# Altium footprint library libNico.PcbLib: 28 footprints (part 2 of 2)
Each footprint in its own frame and in the unit in brackets; x right, y up, seen from the top. Pads: shape width x height; smd on the part's side, far side on the other; paste and mask are expansions set on the pad; w line width, h text height; cw(c..) or ccw(c..) is an arc to the next point about the centre after c.
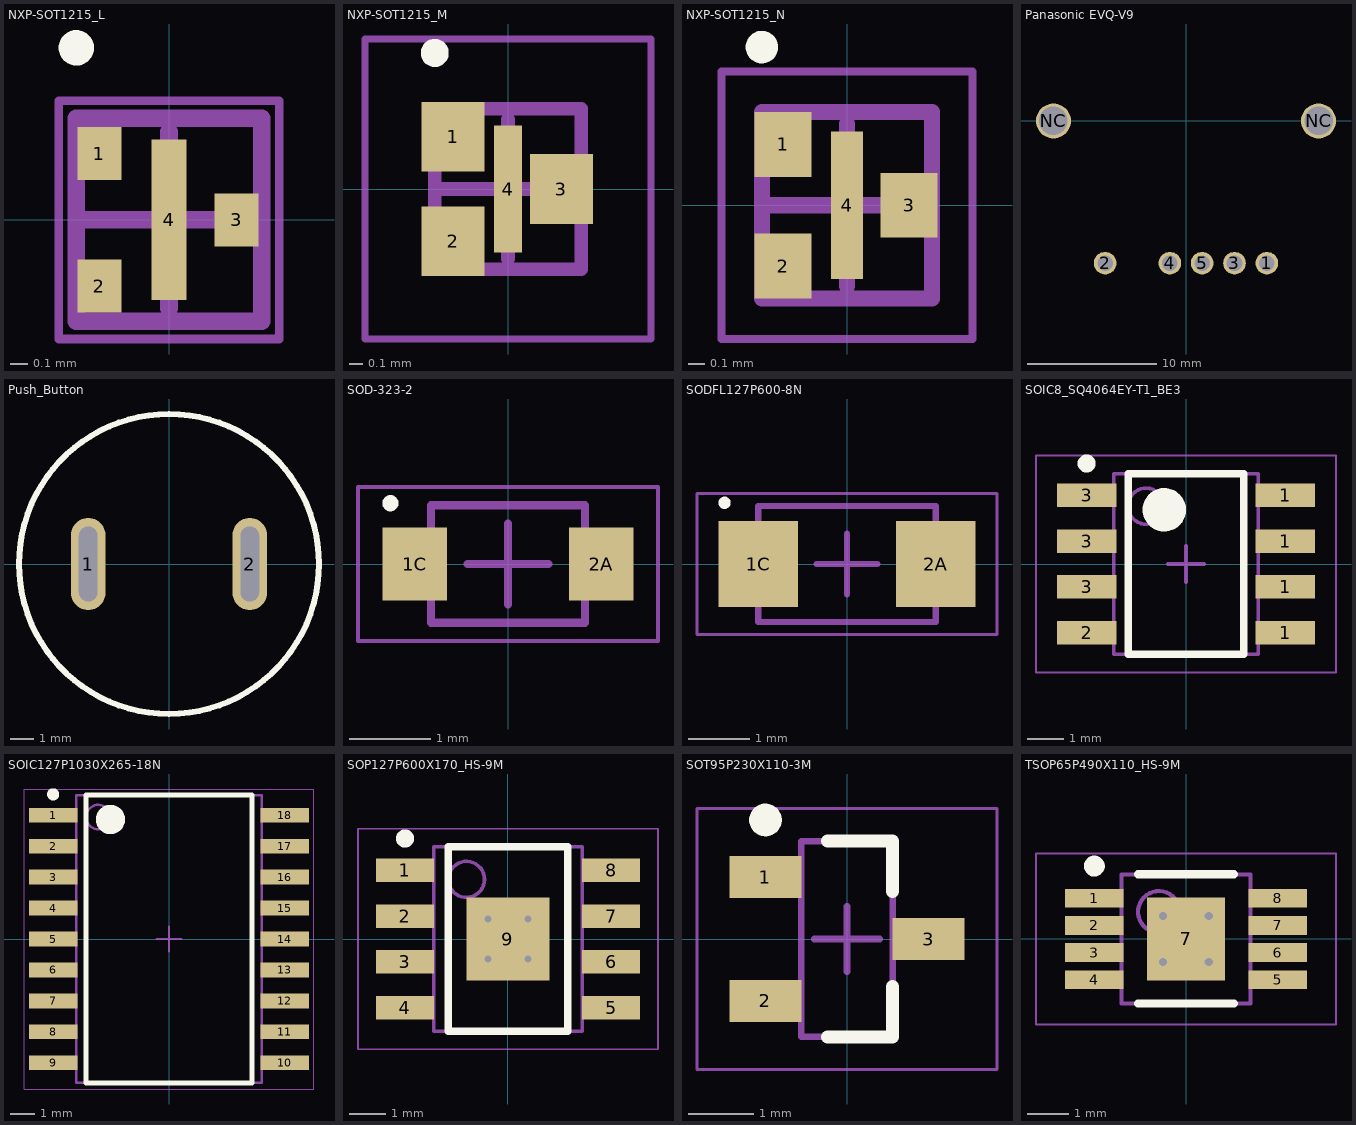
[diagram p1: the footprints below, top view; thin cyan lines are the x and y axes]

## NXP-SOT1215_L [mm] "SON, 3-Leads, Body 1.15x1.05mm, Pitch 0.75mm, Thermal Pad 0.91x0.2mm, IPC High Density"
height 0.4
pads (4):
  rect 0.25x0.3 smd: 1(-0.394,0.375) 2(-0.394,-0.375) 3(0.383,0)
  rect 0.2x0.91 smd: 4(0,0)
Top Overlay:
  circle w0.1: c-0.525,0.975 r0.05
Mechanical 13:
  lines w0.1: -0.525,-0.575 0.525,-0.575 0.525,0.575 -0.525,0.575 -0.525,-0.575
Mechanical 15:
  lines w0.05: -0.625,-0.675 0.625,-0.675 0.625,0.675 -0.625,0.675 -0.625,-0.675
  lines w0.1: -0.5,0 0.5,0 ; 0,-0.5 0,0.5
3D body: height 0.4, standoff 0.04, extent -0.525,-0.575 0.525,0.575

## NXP-SOT1215_M [mm] "SON, 3-Leads, Body 1.15x1.05mm, Pitch 0.75mm, Thermal Pad 0.91x0.2mm, IPC Low Density"
height 0.4
pads (4):
  rect 0.45x0.5 smd: 1(-0.394,0.375) 2(-0.394,-0.375) 3(0.383,0)
  rect 0.2x0.91 smd: 4(0,0)
Top Overlay:
  circle w0.1: c-0.525,0.975 r0.05
Mechanical 13:
  lines w0.1: -0.525,-0.575 0.525,-0.575 0.525,0.575 -0.525,0.575 -0.525,-0.575
Mechanical 15:
  lines w0.05: -1.025,-1.075 1.025,-1.075 1.025,1.075 -1.025,1.075 -1.025,-1.075
  lines w0.1: -0.5,0 0.5,0 ; 0,-0.5 0,0.5
3D body: height 0.4, standoff 0.04, extent -0.525,-0.575 0.525,0.575

## NXP-SOT1215_N [mm] "SON, 3-Leads, Body 1.15x1.05mm, Pitch 0.75mm, Thermal Pad 0.91x0.2mm, IPC Medium Density"
height 0.4
pads (4):
  rect 0.35x0.4 smd: 1(-0.394,0.375) 2(-0.394,-0.375) 3(0.383,0)
  rect 0.2x0.91 smd: 4(0,0)
Top Overlay:
  circle w0.1: c-0.525,0.975 r0.05
Mechanical 13:
  lines w0.1: -0.525,-0.575 0.525,-0.575 0.525,0.575 -0.525,0.575 -0.525,-0.575
Mechanical 15:
  lines w0.05: -0.775,-0.825 0.775,-0.825 0.775,0.825 -0.775,0.825 -0.775,-0.825
  lines w0.1: -0.5,0 0.5,0 ; 0,-0.5 0,0.5
3D body: height 0.4, standoff 0.04, extent -0.525,-0.575 0.525,0.575

## Panasonic EVQ-V9 [mm] "Rotary Encoder"
pads (7):
  round 1.75 hole 1.2: 1(6.25,-11) 2(-6.25,-11) 3(3.75,-11) 4(-1.25,-11) 5(1.25,-11)
  round 2.7 hole 2.2: NC(-10.25,0) NC(10.25,0)
3D body "2020-01-03-04-01-40301-EVQ-V9-Encoder.stp": height 28.67, standoff 0.1, extent -9.454,-10 9.4,10

## Push_Button [mm]
pads (2):
  oval 1.5x4 hole 0.8 slot 3.25 at 90 deg: 1(-3.5,0) 2(3.5,0)
Top Overlay:
  circle w0.254: c0,0 r6.5
3D body "2020-01-03-04-01-40401-Button.stp": height 16.5, standoff -3.13, extent -8.75,-8.75 8.75,8.75

## SOD-323-2 [mm] "SODFL, 2-Leads, Body 1,30x2,50mm, IPC Low Density"
height 1.15
pads (2):
  rect 0.8x0.9 smd: 1C(-1.15,0) 2A(1.15,0)
Top Overlay:
  circle w0.1: c-1.45,0.75 r0.05
Mechanical 13:
  lines w0.1: -0.95,-0.725 0.95,-0.725 0.95,0.725 -0.95,0.725 -0.95,-0.725
Mechanical 15:
  lines w0.05: -1.85,-0.95 1.85,-0.95 1.85,0.95 -1.85,0.95 -1.85,-0.95
  lines w0.1: -0.5,0 0.5,0 ; 0,-0.5 0,0.5
3D body "SOD-323-2.step": height 1.15, standoff 0, extent -1.25,-0.725 1.25,0.725

## SODFL127P600-8N [mm]
height 1.08
pads (2):
  rect 1.3x1.4 smd: 1C(-1.45,0) 2A(1.45,0)
Top Overlay:
  circle w0.1: c-2,1 r0.05
Mechanical 13:
  lines w0.1: -1.45,-0.95 -1.45,0.95 1.45,0.95 1.45,-0.95 -1.45,-0.95
Mechanical 15:
  lines w0.05: -2.45,-1.15 -2.45,1.15 2.45,1.15 2.45,-1.15 -2.45,-1.15
  lines w0.1: -0.5,0 0.5,0 ; 0,-0.5 0,0.5
3D body "SODFL127P600-8N.step": height 1.08, standoff 0, extent -1.85,-0.95 1.85,0.95

## SOIC8_SQ4064EY-T1_BE3 [mm] "SOIC, 8-Leads, Body 4,90x3,90mm, Pitch 1,27mm, IPC Low Density"
height 1.75
pads (8):
  rect 1.65x0.65 smd: 1(2.75,-1.905) 1(2.75,-0.635) 1(2.75,0.635) 1(2.75,1.905) 2(-2.75,-1.905) 3(-2.75,-0.635) 3(-2.75,0.635) 3(-2.75,1.905)
Top Overlay:
  circle w0.6: c-0.6,1.5 r0.3
  circle w0.25: c-2.75,2.78 r0.125
  lines w0.2: -1.6,-2.5 1.6,-2.5 1.6,2.5 -1.6,2.5 -1.6,-2.5
Mechanical 13:
  circle w0.1: c-1.1,1.6 r0.5
  lines w0.1: -2,-2.5 2,-2.5 2,2.5 -2,2.5 -2,-2.5
Mechanical 15:
  lines w0.05: -4.15,-3 4.15,-3 4.15,3 -4.15,3 -4.15,-3
  lines w0.1: -0.5,0 0.5,0 ; 0,-0.5 0,0.5
3D body "SOIC127P600X175-8M.step": height 1.75, standoff 0, extent -3,-2.5 3,2.5

## SOIC127P1030X265-18N [mm] "SOIC, 18-Leads, Body 11,55x7,50mm, Pitch 1,27mm, IPC Medium Density"
height 2.65
pads (18):
  rect 2x0.6 smd: 1(-4.75,5.08) 2(-4.75,3.81) 3(-4.75,2.54) 4(-4.75,1.27) 5(-4.75,0) 6(-4.75,-1.27) 7(-4.75,-2.54) 8(-4.75,-3.81) 9(-4.75,-5.08) 10(4.75,-5.08) 11(4.75,-3.81) 12(4.75,-2.54) 13(4.75,-1.27) 14(4.75,0) 15(4.75,1.27) 16(4.75,2.54) 17(4.75,3.81) 18(4.75,5.08)
Top Overlay:
  circle w0.6: c-2.4,4.9 r0.3
  circle w0.25: c-4.75,5.93 r0.125
  lines w0.2: -3.4,-5.9 3.4,-5.9 3.4,5.9 -3.4,5.9 -3.4,-5.9
Mechanical 13:
  circle w0.1: c-2.9,5 r0.5
  lines w0.1: -3.8,-5.9 3.8,-5.9 3.8,5.9 -3.8,5.9 -3.8,-5.9
Mechanical 15:
  lines w0.05: -5.925,-6.15 5.925,-6.15 5.925,6.15 -5.925,6.15 -5.925,-6.15
  lines w0.1: -0.5,0 0.5,0 ; 0,-0.5 0,0.5
3D body: height 2.65, standoff 0.1, extent -3.8,-5.9 3.8,5.9

## SOP127P600X170_HS-9M [mm] "SOP, 8-Leads, Body 4,90x3,90mm, Pitch 1,27mm, Thermal Pad 2,29x2,29mm, IPC Low Density"
height 1.7
pads (9):
  rect 1.6x0.65 smd: 1(-2.85,1.905) 2(-2.85,0.635) 3(-2.85,-0.635) 4(-2.85,-1.905) 5(2.85,-1.905) 6(2.85,-0.635) 7(2.85,0.635) 8(2.85,1.905)
  rect 2.29x2.29 smd: 9(0,0)
via 0.55,-0.55 diameter 0.5 hole 0.2
via -0.55,-0.55 diameter 0.5 hole 0.2
via 0.55,0.55 diameter 0.5 hole 0.2
via -0.55,0.55 diameter 0.5 hole 0.2
Top Overlay:
  circle w0.25: c-2.85,2.78 r0.125
  lines w0.2: -1.65,-2.55 1.65,-2.55 1.65,2.55 -1.65,2.55 -1.65,-2.55
Mechanical 13:
  circle w0.1: c-1.15,1.65 r0.5
  lines w0.1: -2.05,-2.55 2.05,-2.55 2.05,2.55 -2.05,2.55 -2.05,-2.55
Mechanical 15:
  lines w0.05: -4.15,-3.05 4.15,-3.05 4.15,3.05 -4.15,3.05 -4.15,-3.05
  lines w0.1: -0.5,0 0.5,0 ; 0,-0.5 0,0.5
3D body "SOP127P600X170_HS-9M.step": height 1.7, standoff 0, extent -3,-2.55 3,2.55

## SOT95P230X110-3M [mm] "SOT23, 3-Leads, Body 2,90x2,30mm, Pitch 0,95mm, IPC Low Density"
height 1.1
pads (3):
  rect 1.1x0.65 smd: 1(-1.25,0.95) 2(-1.25,-0.95) 3(1.25,0)
Top Overlay:
  circle w0.25: c-1.25,1.825 r0.125
  lines w0.2: -0.3,-1.5 0.7,-1.5 0.7,-0.725 ; -0.3,1.5 0.7,1.5 0.7,0.725
Mechanical 13:
  lines w0.1: -0.7,-1.5 0.7,-1.5 0.7,1.5 -0.7,1.5 -0.7,-1.5
Mechanical 15:
  lines w0.05: -2.3,-2 2.3,-2 2.3,2 -2.3,2 -2.3,-2
  lines w0.1: -0.5,0 0.5,0 ; 0,-0.5 0,0.5
3D body: height 1.1, standoff 0.1, extent -0.7,-1.5 0.7,1.5

## TSOP65P490X110_HS-9M [mm] "TSOP, 8-Leads, Body 3,00x3,00mm, Pitch 0,65mm, Thermal Pad 2,00x1,88mm, IPC Low Density"
height 1.1
pads (9):
  rect 1.4x0.45 smd: 1(-2.2,0.975) 2(-2.2,0.325) 3(-2.2,-0.325) 4(-2.2,-0.975) 5(2.2,-0.975) 6(2.2,-0.325) 7(2.2,0.325) 8(2.2,0.975)
  rect 1.88x2 smd: 7(0,0)
via 0.55,-0.55 diameter 0.5 hole 0.2
via -0.55,-0.55 diameter 0.5 hole 0.2
via 0.55,0.55 diameter 0.5 hole 0.2
via -0.55,0.55 diameter 0.5 hole 0.2
Top Overlay:
  circle w0.25: c-2.2,1.75 r0.125
  lines w0.2: -1.15,-1.55 1.15,-1.55 ; -1.15,1.55 1.15,1.55
Mechanical 13:
  circle w0.1: c-0.65,0.65 r0.5
  lines w0.1: -1.55,-1.55 1.55,-1.55 1.55,1.55 -1.55,1.55 -1.55,-1.55
Mechanical 15:
  lines w0.05: -3.6,-2.05 3.6,-2.05 3.6,2.05 -3.6,2.05 -3.6,-2.05
  lines w0.1: -0.5,0 0.5,0 ; 0,-0.5 0,0.5
3D body "TSOP65P490X110_HS-9M.step": height 1.1, standoff 0, extent -2.45,-1.55 2.45,1.55